# EAGLE library part SPARK_CORE (library Mikes-Stuff)
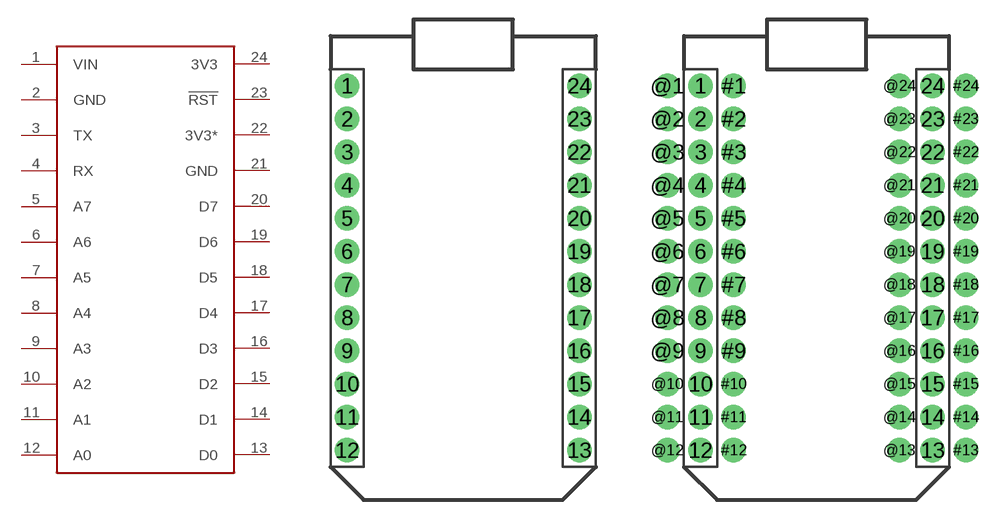
[diagram p25: symbol with the pads of SPARK_CORE; footprints SPARK_CORE, SPARK_CORE_STACKABLE]

Designator prefix -

## SPARK_CORECORE  [SPARK_CORE]
1  VIN  pwr
2  GND  pwr
3  TX
4  RX
5  A7
6  A6
7  A5
8  A4
9  A3
10  A2
11  A1
12  A0
13  D0
14  D1
15  D2
16  D3
17  D4
18  D5
19  D6
20  D7
21  GND  pwr
22  3V3*  pwr
23  !RST
24  3V3  pwr

## SPARK_CORESTACKABLE  [SPARK_CORE_STACKABLE]
1  VIN  pwr
2  GND  pwr
3  TX
4  RX
5  A7
6  A6
7  A5
8  A4
9  A3
10  A2
11  A1
12  A0
13  D0
14  D1
15  D2
16  D3
17  D4
18  D5
19  D6
20  D7
21  GND  pwr
22  3V3*  pwr
23  !RST
24  3V3  pwr
#1  VIN  pwr
#2  GND  pwr
#3  TX
#4  RX
#5  A7
#6  A6
#7  A5
#8  A4
#9  A3
#10  A2
#11  A1
#12  A0
#13  D0
#14  D1
#15  D2
#16  D3
#17  D4
#18  D5
#19  D6
#20  D7
#21  GND  pwr
#22  3V3*  pwr
#23  !RST
#24  3V3  pwr
@1  VIN  pwr
@2  GND  pwr
@3  TX
@4  RX
@5  A7
@6  A6
@7  A5
@8  A4
@9  A3
@10  A2
@11  A1
@12  A0
@13  D0
@14  D1
@15  D2
@16  D3
@17  D4
@18  D5
@19  D6
@20  D7
@21  GND  pwr
@22  3V3*  pwr
@23  !RST
@24  3V3  pwr

## Footprint SPARK_CORE (pad centres in mm)
drill 1.016 pad 1.88: 1 -8.89,13.97; 2 -8.89,11.43; 3 -8.89,8.89; 4 -8.89,6.35; 5 -8.89,3.81; 6 -8.89,1.27; 7 -8.89,-1.27; 8 -8.89,-3.81; 9 -8.89,-6.35; 10 -8.89,-8.89; 11 -8.89,-11.43; 12 -8.89,-13.97; 13 8.89,-13.97; 14 8.89,-11.43; 15 8.89,-8.89; 16 8.89,-6.35; 17 8.89,-3.81; 18 8.89,-1.27; 19 8.89,1.27; 20 8.89,3.81; 21 8.89,6.35; 22 8.89,8.89; 23 8.89,11.43; 24 8.89,13.97

## Footprint SPARK_CORE_STACKABLE (pad centres in mm)
drill 1.016 pad 1.88: 1 -8.89,13.97; 2 -8.89,11.43; 3 -8.89,8.89; 4 -8.89,6.35; 5 -8.89,3.81; 6 -8.89,1.27; 7 -8.89,-1.27; 8 -8.89,-3.81; 9 -8.89,-6.35; 10 -8.89,-8.89; 11 -8.89,-11.43; 12 -8.89,-13.97; 13 8.89,-13.97; 14 8.89,-11.43; 15 8.89,-8.89; 16 8.89,-6.35; 17 8.89,-3.81; 18 8.89,-1.27; 19 8.89,1.27; 20 8.89,3.81; 21 8.89,6.35; 22 8.89,8.89; 23 8.89,11.43; 24 8.89,13.97; #1 -6.35,13.97; #2 -6.35,11.43; #3 -6.35,8.89; #4 -6.35,6.35; #5 -6.35,3.81; #6 -6.35,1.27; #7 -6.35,-1.27; #8 -6.35,-3.81; #9 -6.35,-6.35; #10 -6.35,-8.89; #11 -6.35,-11.43; #12 -6.35,-13.97; #13 11.43,-13.97; #14 11.43,-11.43; #15 11.43,-8.89; #16 11.43,-6.35; #17 11.43,-3.81; #18 11.43,-1.27; #19 11.43,1.27; #20 11.43,3.81; #21 11.43,6.35; #22 11.43,8.89; #23 11.43,11.43; #24 11.43,13.97; @1 -11.43,13.97; @2 -11.43,11.43; @3 -11.43,8.89; @4 -11.43,6.35; @5 -11.43,3.81; @6 -11.43,1.27; @7 -11.43,-1.27; @8 -11.43,-3.81; @9 -11.43,-6.35; @10 -11.43,-8.89; @11 -11.43,-11.43; @12 -11.43,-13.97; @13 6.35,-13.97; @14 6.35,-11.43; @15 6.35,-8.89; @16 6.35,-6.35; @17 6.35,-3.81; @18 6.35,-1.27; @19 6.35,1.27; @20 6.35,3.81; @21 6.35,6.35; @22 6.35,8.89; @23 6.35,11.43; @24 6.35,13.97